# EAGLE library part 4816P-T02 (library resistor-bourns)
BOURNS RESISTOR NETWORK
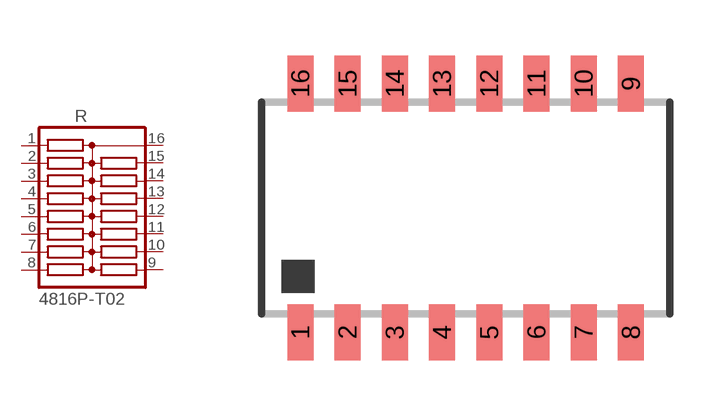
[diagram p18: symbol with the pads of 4816P; footprint 4816P]

Designator prefix R

## 4816P-T02 (MF: BOURNS, INC.; MPN: 4816P-T02-824LF; OC_FARNELL: 9357599; OC_NEWARK: 33K0777)  [4816P]
1  1  pas
2  2  pas
3  3  pas
4  4  pas
5  5  pas
6  6  pas
7  7  pas
8  8  pas
9  9  pas
10  10  pas
11  11  pas
12  12  pas
13  13  pas
14  14  pas
15  15  pas
16  16  pas

## Footprint 4816P (pad centres in mm)
BOURNS RESISTOR NETWORK
smd 0.7 x 1.5: 1 -4.445,-3.346; 2 -3.175,-3.346; 3 -1.905,-3.346; 4 -0.635,-3.346; 5 0.635,-3.346; 6 1.905,-3.346; 7 3.175,-3.346; 8 4.445,-3.346; 9 4.445,3.346; 10 3.175,3.346; 11 1.905,3.346; 12 0.635,3.346; 13 -0.635,3.346; 14 -1.905,3.346; 15 -3.175,3.346; 16 -4.445,3.346